# EAGLE library part RC80 (library Custom)
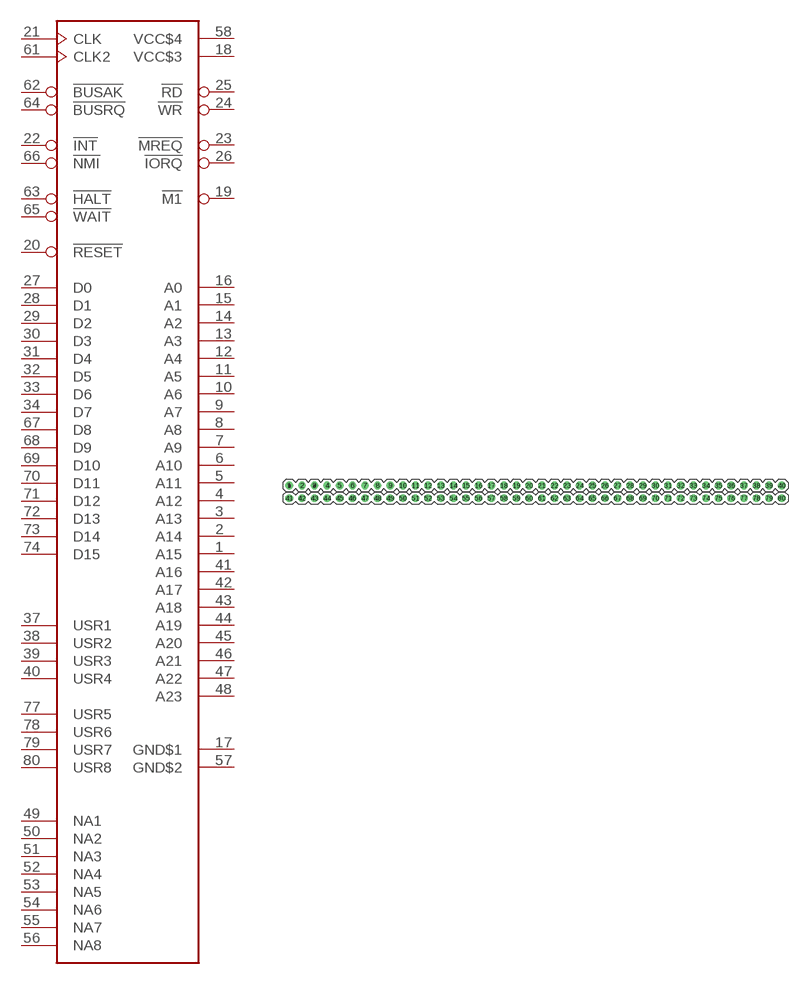
[diagram p37: symbol with the pads of 2X40; footprint 2X40]

Designator prefix -

## RC80  [2X40]
1  A15  out
2  A14  out
3  A13  out
4  A12  out
5  A11  out
6  A10  out
7  A9  out
8  A8  out
9  A7  out
10  A6  out
11  A5  out
12  A4  out
13  A3  out
14  A2  out
15  A1  out
16  A0  out
17  GND$1  pwr
18  VCC$3  pwr
19  !M1
20  !RESET
21  CLK
22  !INT
23  !MREQ
24  !WR
25  !RD
26  !IORQ
27  D0
28  D1
29  D2
30  D3
31  D4
32  D5
33  D6
34  D7
37  USR1
38  USR2
39  USR3
40  USR4
41  A16  out
42  A17  out
43  A18  out
44  A19  out
45  A20  out
46  A21  out
47  A22  out
48  A23  out
49  NA1
50  NA2
51  NA3
52  NA4
53  NA5
54  NA6
55  NA7
56  NA8
57  GND$2  pwr
58  VCC$4  pwr
61  CLK2
62  !BUSAK
63  !HALT
64  !BUSRQ
65  !WAIT
66  !NMI
67  D8
68  D9
69  D10
70  D11
71  D12
72  D13
73  D14
74  D15
77  USR5
78  USR6
79  USR7
80  USR8

## Footprint 2X40 (pad centres in mm)
drill 1.016: 1 3.81,0; 2 6.35,0; 3 8.89,0; 4 11.43,0; 5 13.97,0; 6 16.51,0; 7 19.05,0; 8 21.59,0; 9 24.13,0; 10 26.67,0; 11 29.21,0; 12 31.75,0; 13 34.29,0; 14 36.83,0; 15 39.37,0; 16 41.91,0; 17 44.45,0; 18 46.99,0; 19 49.53,0; 20 52.07,0; 21 54.61,0; 22 57.15,0; 23 59.69,0; 24 62.23,0; 25 64.77,0; 26 67.31,0; 27 69.85,0; 28 72.39,0; 29 74.93,0; 30 77.47,0; 31 80.01,0; 32 82.55,0; 33 85.09,0; 34 87.63,0; 35 90.17,0; 36 92.71,0; 37 95.25,0; 38 97.79,0; 39 100.33,0; 40 102.87,0; 41 3.81,-2.54; 42 6.35,-2.54; 43 8.89,-2.54; 44 11.43,-2.54; 45 13.97,-2.54; 46 16.51,-2.54; 47 19.05,-2.54; 48 21.59,-2.54; 49 24.13,-2.54; 50 26.67,-2.54; 51 29.21,-2.54; 52 31.75,-2.54; 53 34.29,-2.54; 54 36.83,-2.54; 55 39.37,-2.54; 56 41.91,-2.54; 57 44.45,-2.54; 58 46.99,-2.54; 59 49.53,-2.54; 60 52.07,-2.54; 61 54.61,-2.54; 62 57.15,-2.54; 63 59.69,-2.54; 64 62.23,-2.54; 65 64.77,-2.54; 66 67.31,-2.54; 67 69.85,-2.54; 68 72.39,-2.54; 69 74.93,-2.54; 70 77.47,-2.54; 71 80.01,-2.54; 72 82.55,-2.54; 73 85.09,-2.54; 74 87.63,-2.54; 75 90.17,-2.54; 76 92.71,-2.54; 77 95.25,-2.54; 78 97.79,-2.54; 79 100.33,-2.54; 80 102.87,-2.54